# Altium footprint library BQ24072TRGTR.PcbLib: 1 footprints
Each footprint in its own frame and in the unit in brackets; x right, y up, seen from the top. Pads: shape width x height; smd on the part's side, far side on the other; paste and mask are expansions set on the pad; w line width, h text height; cw(c..) or ccw(c..) is an arc to the next point about the centre after c.
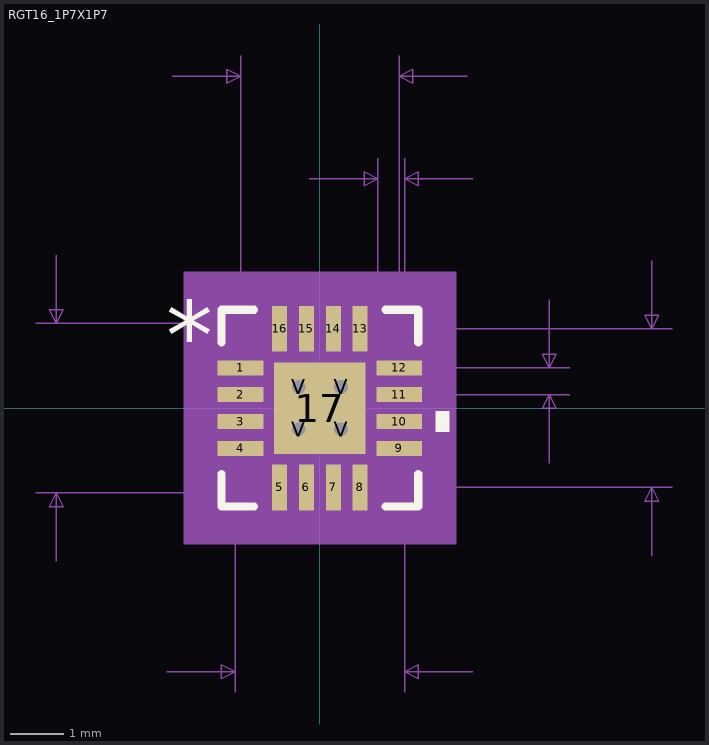
[diagram p0: the footprint, top view; thin cyan lines are the x and y axes]

## RGT16_1P7X1P7 [mm]
pads (21):
  rect 0.85x0.28 smd paste-0.14: 1(-1.475,0.75) 2(-1.475,0.25) 3(-1.475,-0.25) 4(-1.475,-0.75) 9(1.475,-0.75) 10(1.475,-0.25) 11(1.475,0.25) 12(1.475,0.75)
  rect 0.28x0.85 smd paste-0.14: 5(-0.75,-1.475) 6(-0.25,-1.475) 7(0.25,-1.475) 8(0.75,-1.475) 13(0.75,1.475) 14(0.25,1.475) 15(-0.25,1.475) 16(-0.75,1.475)
  rect 1.7x1.7 smd paste-0.837 mask-0.838: 17(0,0)
  round 0.508 hole 0.254: V(-0.394,-0.394) V(-0.394,0.394) V(0.394,-0.394) V(0.394,0.394)
Top Overlay:
  region: 2.154,-0.059 2.408,-0.059 2.408,-0.44 2.154,-0.44
  lines w0.152: -1.829,-1.223 -1.829,-1.829 -1.223,-1.829 ; -1.829,1.223 -1.829,1.829 -1.223,1.829 ; 1.223,-1.829 1.829,-1.829 1.829,-1.223 ; 1.223,1.829 1.829,1.829 1.829,1.223
  text "*" at -2.852,0.746 h1.27
Top Paste:
  region: -1.075,0.865 -1.875,0.865 -1.875,0.635 -1.075,0.635
  region: -1.075,0.365 -1.875,0.365 -1.875,0.135 -1.075,0.135
  region: -1.075,-0.135 -1.875,-0.135 -1.875,-0.365 -1.075,-0.365
  region: -1.075,-0.635 -1.875,-0.635 -1.875,-0.865 -1.075,-0.865
  region: -0.635,-1.075 -0.865,-1.075 -0.865,-1.875 -0.635,-1.875
  region: -0.135,-1.075 -0.365,-1.075 -0.365,-1.875 -0.135,-1.875
  region: 0.365,-1.075 0.135,-1.075 0.135,-1.875 0.365,-1.875
  region: 0.865,-1.075 0.635,-1.075 0.635,-1.875 0.865,-1.875
  region: 1.875,-0.635 1.075,-0.635 1.075,-0.865 1.875,-0.865
  region: 1.875,-0.135 1.075,-0.135 1.075,-0.365 1.875,-0.365
  region: 1.875,0.365 1.075,0.365 1.075,0.135 1.875,0.135
  region: 1.875,0.865 1.075,0.865 1.075,0.635 1.875,0.635
  region: 0.865,1.875 0.635,1.875 0.635,1.075 0.865,1.075
  region: 0.365,1.875 0.135,1.875 0.135,1.075 0.365,1.075
  region: -0.135,1.875 -0.365,1.875 -0.365,1.075 -0.135,1.075
  region: -0.635,1.875 -0.865,1.875 -0.865,1.075 -0.635,1.075
  region: -0.494,0.775 -0.775,0.775 -0.775,0.494 -0.635,0.494 -0.494,0.635
  region: -0.635,0.294 -0.775,0.294 -0.775,-0.294 -0.635,-0.294 -0.494,-0.152 -0.494,0.152
  region: -0.635,-0.494 -0.775,-0.494 -0.775,-0.775 -0.494,-0.775 -0.494,-0.635
  region: 0.294,0.775 -0.294,0.775 -0.294,0.635 -0.152,0.494 0.152,0.494 0.294,0.635
  region: 0.152,0.294 -0.152,0.294 -0.294,0.152 -0.294,-0.152 -0.152,-0.294 0.152,-0.294 0.294,-0.152 0.294,0.152
  region: 0.152,-0.494 -0.152,-0.494 -0.294,-0.635 -0.294,-0.775 0.294,-0.775 0.294,-0.635
  region: 0.775,0.775 0.494,0.775 0.494,0.635 0.635,0.494 0.775,0.494
  region: 0.775,0.294 0.635,0.294 0.494,0.152 0.494,-0.152 0.635,-0.294 0.775,-0.294
  region: 0.775,-0.494 0.635,-0.494 0.494,-0.635 0.494,-0.775 0.775,-0.775
Top Solder:
  region: -0.98,0.96 -1.97,0.96 -1.97,0.54 -0.98,0.54
  region: -0.98,0.46 -1.97,0.46 -1.97,0.04 -0.98,0.04
  region: -0.98,-0.04 -1.97,-0.04 -1.97,-0.46 -0.98,-0.46
  region: -0.98,-0.54 -1.97,-0.54 -1.97,-0.96 -0.98,-0.96
  region: -0.541,-0.98 -0.96,-0.98 -0.96,-1.97 -0.541,-1.97
  region: -0.04,-0.98 -0.46,-0.98 -0.46,-1.97 -0.04,-1.97
  region: 0.46,-0.98 0.04,-0.98 0.04,-1.97 0.46,-1.97
  region: 0.96,-0.98 0.541,-0.98 0.541,-1.97 0.96,-1.97
  region: 1.97,-0.54 0.98,-0.54 0.98,-0.96 1.97,-0.96
  region: 1.97,-0.04 0.98,-0.04 0.98,-0.46 1.97,-0.46
  region: 1.97,0.46 0.98,0.46 0.98,0.04 1.97,0.04
  region: 1.97,0.96 0.98,0.96 0.98,0.54 1.97,0.54
  region: 0.96,1.97 0.541,1.97 0.541,0.98 0.96,0.98
  region: 0.46,1.97 0.04,1.97 0.04,0.98 0.46,0.98
  region: -0.04,1.97 -0.46,1.97 -0.46,0.98 -0.04,0.98
  region: -0.541,1.97 -0.96,1.97 -0.96,0.98 -0.541,0.98
  region: -0.914,0.594 -0.914,0.914 0.914,0.914 0.914,0.594
  region: -0.914,-0.194 -0.914,0.194 0.914,0.194 0.914,-0.194
  region: -0.914,-0.914 -0.914,-0.594 0.914,-0.594 0.914,-0.914
  region: -0.914,-0.914 -0.914,0.914 -0.594,0.914 -0.594,-0.914
  region: 0.194,-0.914 0.194,0.914 -0.194,0.914 -0.194,-0.914
  region: 0.594,-0.914 0.594,0.914 0.914,0.914 0.914,-0.914
Mechanical 5:
  region: 2.535,-2.535 -2.535,-2.535 -2.535,2.535 2.535,2.535
Mechanical 7:
  lines w0.025: -5.281,-1.575 1.575,-1.575 ; -5.281,1.575 1.575,1.575 1.575,-5.281 ; -4.9,-2.845 -4.9,-1.575 ; -4.9,2.845 -4.9,1.575 ; -2.845,-4.9 -1.575,-4.9 ; -2.745,6.17 -1.475,6.17 ; -1.575,-5.281 -1.575,1.575 ; -1.475,0.75 -1.475,6.551 ; -0.195,4.265 1.075,4.265 ; 0.75,-1.475 6.551,-1.475 ; 0.75,1.475 6.551,1.475 ; 1.075,0.75 1.075,4.646 ; 1.475,0.25 4.646,0.25 ; 1.475,6.551 1.475,0.75 4.646,0.75 ; 1.575,0.75 1.575,4.646 ; 2.745,6.17 1.475,6.17 ; 2.845,-4.9 1.575,-4.9 ; 2.845,4.265 1.575,4.265 ; 4.265,-1.02 4.265,0.25 ; 4.265,2.02 4.265,0.75 ; 6.17,-2.745 6.17,-1.475 ; 6.17,2.745 6.17,1.475 ; -4.9,-1.575 -5.027,-1.829 -4.773,-1.829 -4.9,-1.575 ; -4.9,1.575 -5.027,1.829 -4.773,1.829 -4.9,1.575 ; -1.575,-4.9 -1.829,-4.773 -1.829,-5.027 -1.575,-4.9 ; -1.475,6.17 -1.729,6.297 -1.729,6.043 -1.475,6.17 ; 1.075,4.265 0.821,4.392 0.821,4.138 1.075,4.265 ; 1.475,6.17 1.729,6.297 1.729,6.043 1.475,6.17 ; 1.575,-4.9 1.829,-4.773 1.829,-5.027 1.575,-4.9 ; 1.575,4.265 1.829,4.392 1.829,4.138 1.575,4.265 ; 4.265,0.25 4.138,-0.004 4.392,-0.004 4.265,0.25 ; 4.265,0.75 4.138,1.004 4.392,1.004 4.265,0.75 ; 6.17,-1.475 6.043,-1.729 6.297,-1.729 6.17,-1.475 ; 6.17,1.475 6.043,1.729 6.297,1.729 6.17,1.475
  text "Default Padstyle: RX11p02Y33p46D0T" at -10.795,-8.075 h1.27
  text "Alt 1 Padstyle: OX60Y90D30P" at -8.572,-10.615 h1.27
  text "Alt 2 Padstyle: OX90Y60D30P" at -8.572,-13.155 h1.27
  text "1.968504E-02in/.5mm" at 4.773,0.182 h0.64
  text "1.968504E-02in/.5mm" at -1.691,4.773 h0.64
  text ".1161417in/2.95mm" at -2.699,6.678 h0.64
  text ".1161417in/2.95mm" at 6.678,-0.318 h0.64
  text ".1240157in/3.15mm" at -10.806,-0.318 h0.64
  text ".1240157in/3.15mm" at -2.699,-6.043 h0.64
Mechanical 13:
  lines w0.025: -1.575,0.305 -0.305,1.575 ; -1.575,-0.9 -1.575,-0.6 ; -1.575,-0.9 -1.575,-0.6 ; -1.575,-0.9 -1.575,-0.9 ; -1.575,-0.6 -1.575,-0.6 ; -1.575,-0.4 -1.575,-0.1 ; -1.575,-0.4 -1.575,-0.1 ; -1.575,-0.4 -1.575,-0.4 ; -1.575,-0.1 -1.575,-0.1 ; -1.575,0.1 -1.575,0.4 ; -1.575,0.1 -1.575,0.4 ; -1.575,0.1 -1.575,0.1 ; -1.575,0.4 -1.575,0.4 ; -1.575,0.6 -1.575,0.9 ; -1.575,0.6 -1.575,0.9 ; -1.575,0.6 -1.575,0.6 ; -1.575,0.9 -1.575,0.9 ; -0.9,-1.575 -0.6,-1.575 ; -0.9,-1.575 -0.9,-1.575 ; -0.9,-1.575 -0.6,-1.575 ; -0.9,1.575 -0.6,1.575 ; -0.9,1.575 -0.6,1.575 ; -0.9,1.575 -0.9,1.575 ; -0.6,-1.575 -0.6,-1.575 ; -0.6,1.575 -0.6,1.575 ; -0.4,-1.575 -0.1,-1.575 ; -0.4,-1.575 -0.4,-1.575 ; -0.4,-1.575 -0.1,-1.575 ; -0.4,1.575 -0.1,1.575 ; -0.4,1.575 -0.1,1.575 ; -0.4,1.575 -0.4,1.575 ; -0.1,-1.575 -0.1,-1.575 ; -0.1,1.575 -0.1,1.575 ; 0.1,-1.575 0.4,-1.575 ; 0.1,-1.575 0.1,-1.575 ; 0.1,-1.575 0.4,-1.575 ; 0.1,1.575 0.4,1.575 ; 0.1,1.575 0.4,1.575 ; 0.1,1.575 0.1,1.575 ; 0.4,-1.575 0.4,-1.575 ; 0.4,1.575 0.4,1.575 ; 0.6,-1.575 0.9,-1.575 ; 0.6,-1.575 0.6,-1.575 ; 0.6,-1.575 0.9,-1.575 ; 0.6,1.575 0.9,1.575 ; 0.6,1.575 0.9,1.575 ; 0.6,1.575 0.6,1.575 ; 0.9,-1.575 0.9,-1.575 ; 0.9,1.575 0.9,1.575 ; 1.575,-0.9 1.575,-0.6 ; 1.575,-0.9 1.575,-0.9 ; 1.575,-0.9 1.575,-0.6 ; 1.575,-0.6 1.575,-0.6 ; 1.575,-0.4 1.575,-0.1 ; 1.575,-0.4 1.575,-0.4 ; 1.575,-0.4 1.575,-0.1 ; 1.575,-0.1 1.575,-0.1 ; 1.575,0.1 1.575,0.4 ; 1.575,0.1 1.575,0.1 ; 1.575,0.1 1.575,0.4 ; 1.575,0.4 1.575,0.4 ; 1.575,0.6 1.575,0.9 ; 1.575,0.6 1.575,0.6 ; 1.575,0.6 1.575,0.9 ; 1.575,0.9 1.575,0.9 ; -1.575,-1.575 1.575,-1.575 1.575,1.575 -1.575,1.575 -1.575,-1.575
  text "*" at -2.852,0.746 h1.27
Mechanical 15:
  region: 2.154,-2.154 -2.154,-2.154 -2.154,2.154 2.154,2.154
  lines w0.152: -2.154,-2.154 -2.154,2.154 2.154,2.154 2.154,-2.154 -2.154,-2.154
3D body: height 0.25, standoff 0, extent 0,0 0.254,0.254